# Altium schematic symbol library Cole_.SchLib: 330 symbols (part 10 of 10)
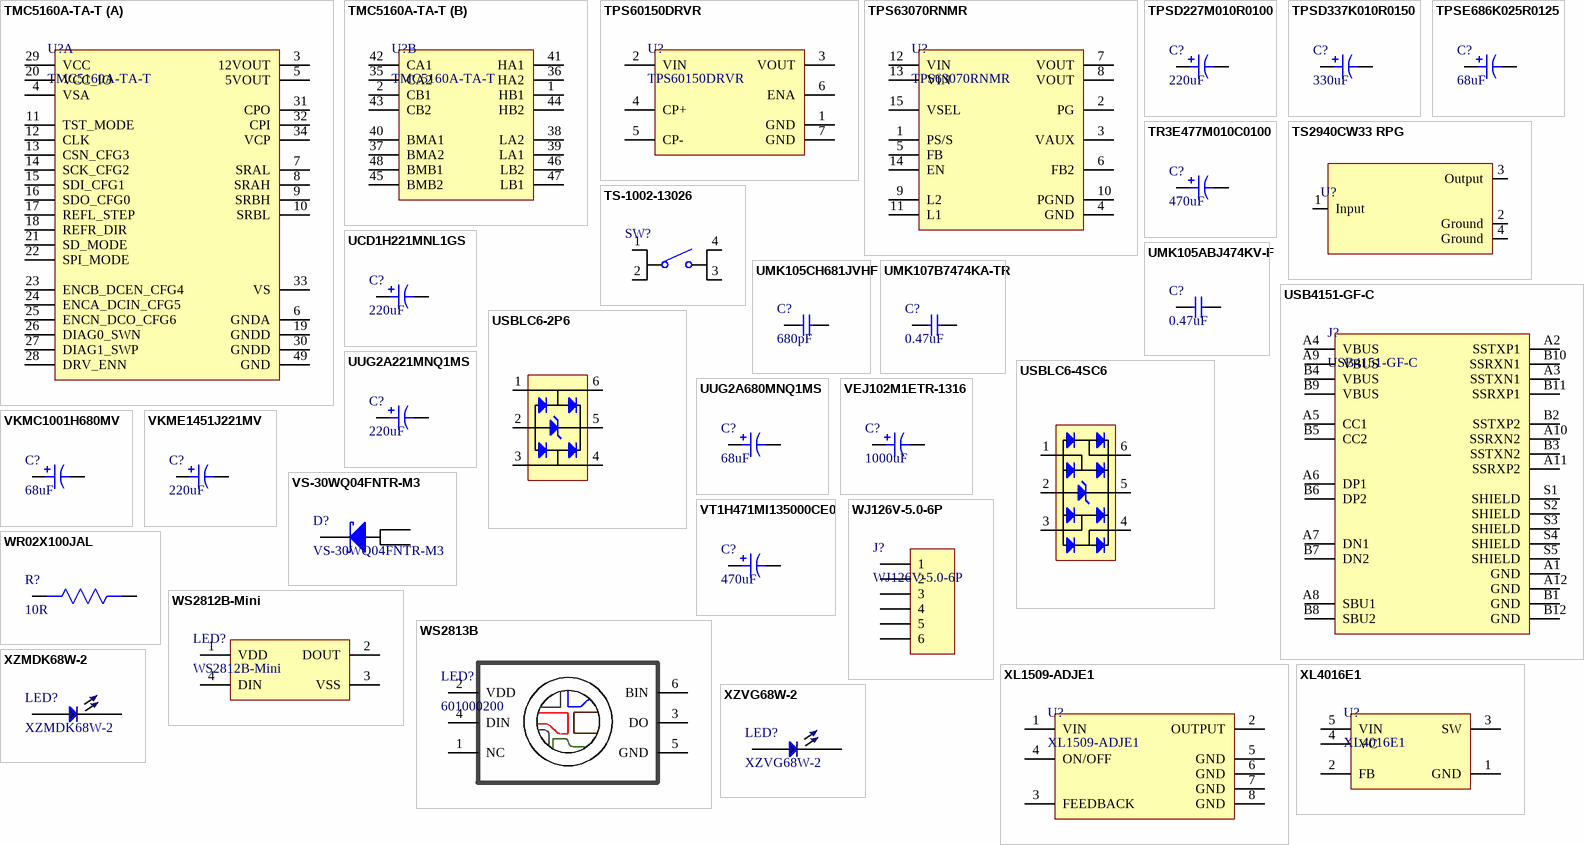
[diagram p17: symbols TMC5160A-TA-T to XZVG68W-2]

## TPS60150DRVR
designator U?
IC REG CHARGE PUMP 5V 140MA 6SON; Manufacturer: Texas Instruments; Number of Outputs: 1; Max Input Voltage: 5.5V; Min Input Voltage: 2.7V; Switching Frequency: 1.5MHz; Synchronous Rectifier: No; Min Output Voltage: 4.8V; Quiescent Current: 4.7mA; Max Output Voltage: 5.2V; Output Type: Fixed; Nominal Supply Current: 90uA; Topology: Boost; Supplier 1: Digi-Key; Manufacturer Part Number: TPS60150DRVR; RoHS: Yes; Category: Voltage Regulators - Switching; Pricing 1: 1=1.69000, 10=1.51400, 25=1.42840, 100=1.21700, 250=1.14268, 500=0.99984, 1000=0.94325 (USD); Case/Package: SON; Number of Pins: 6; Contact Plating: Gold; Min Operating Temperature: -40°C; Max Operating Temperature: 85°C; Packaging: Tape and Reel; Output Voltage: 5V; Output Current: 140mA; Package Quantity: 1; Max Output Current: 140mA; Series: -; Max Supply Voltage: 5.5V; Min Supply Voltage: 2.7V; Nominal Output Voltage: 5V; Supply Current: 90uA; Radiation Hardening: No; REACH SVHC: No SVHC; Lead Free: Lead Free; RoHS Compliant: Yes; ComponentLink1URL: https://datasheet.ciiva.com/15114/getdatasheetpartid-358100-15114131.pdf?src-supplier=Verical; ComponentLink1Description: https://datasheet.ciiva.com/15114/getdatasheetpartid-358100-15114131.pdf?src-supplier=Verical; ComponentLink2URL: https://datasheet.ciiva.com/4874/slvs888b-120916-4874885.pdf?src-supplier=Mouser; ComponentLink2Description: https://datasheet.ciiva.com/4874/slvs888b-120916-4874885.pdf?src-supplier=Mouser; ComponentLink3URL: https://datasheet.ciiva.com/26902/tps60150drvr-26902693.pdf?src-supplier=IIIC; ComponentLink3Description: https://datasheet.ciiva.com/26902/tps60150drvr-26902693.pdf?src-supplier=IIIC; ComponentLink4URL: https://datasheet.ciiva.com/41462/001014874-da-01-en-ic-reg-switched-tps60150drvr-wson-6-tid-41462718.pdf?src-supplier=Conrad; ComponentLink4Description: https://datasheet.ciiva.com/41462/001014874-da-01-en-ic-reg-switched-tps60150drvr-wson-6-tid-41462718.pdf?src-supplier=Conrad; ComponentLink5URL: https://datasheet.ciiva.com/22669/1828381-22669637.pdf?src-supplier=Element14; ComponentLink5Description: https://datasheet.ciiva.com/22669/1828381-22669637.pdf?src-supplier=Element14; ComponentLink6URL: https://datasheet.ciiva.com/2025/tps60150-2025302.pdf?src-supplier=Digi-Key; ComponentLink6Description: https://datasheet.ciiva.com/2025/tps60150-2025302.pdf?src-supplier=Digi-Key; ComponentLink7URL: https://datasheet.ciiva.com/2025/tps60150-2025303.pdf?src-supplier=Digi-Key; ComponentLink7Description: https://datasheet.ciiva.com/2025/tps60150-2025303.pdf?src-supplier=Digi-Key; ComponentLink8URL: https://datasheet.ciiva.com/2025/tps60150-2025304.pdf?src-supplier=Digi-Key; ComponentLink8Description: https://datasheet.ciiva.com/2025/tps60150-2025304.pdf?src-supplier=Digi-Key; ComponentLink9URL: https://datasheet.ciiva.com/46382/1828381-46382472.pdf?src-supplier=Element14; ComponentLink9Description: https://datasheet.ciiva.com/46382/1828381-46382472.pdf?src-supplier=Element14; ComponentLink10URL: https://datasheet.ciiva.com/3215/tps60150-3215851.pdf?src-supplier=Avnet; ComponentLink10Description: https://datasheet.ciiva.com/3215/tps60150-3215851.pdf?src-supplier=Avnet; ComponentLink11URL: https://datasheet.ciiva.com/14320/tps60150-14320303.pdf?src-supplier=Avnet; ComponentLink11Description: https://datasheet.ciiva.com/14320/tps60150-14320303.pdf?src-supplier=Avnet; Supplier Part Number 1: 296-24054-6-ND
footprint TPS60150DRVR
pins: 1 GND, 2 VIN, 3 VOUT, 4 CP+, 5 CP-, 6 ENA, 7 GND

## TPS63070RNMR
designator U?
2-V to 16-V Buck-Boost Converter With 3.6-A Switch Current | IC REG BCK BST ADJ 3.6A 15VQFN; Manufacturer: Texas Instruments; Number of Outputs: 1; Min Input Voltage: 2V; Max Input Voltage: 16V; Min Output Voltage: 2.5V; Max Output Voltage: 9V; Output Current: 2A; Switching Frequency: 2.4MHz; Synchronous Rectifier: Yes; Quiescent Current: 50uA; Output Type: Adjustable; Output Configuration: Positive; ComponentLink2URL: http://www.ti.com/general/docs/suppproductinfo.tsp?distId=10&amp;gotoUrl=http%3A%2F%2Fwww.ti.com%2Flit%2Fgpn%2Ftps63070&src-supplier=Digi-Key; ComponentLink2Description: http://www.ti.com/general/docs/suppproductinfo.tsp?distId=10&amp;gotoUrl=http%3A%2F%2Fwww.ti.com%2Flit%2Fgpn%2Ftps63070&src-supplier=Digi-Key; ComponentLink3URL: http://www.ti.com/lit/ds/symlink/tps63070.pdf?src-supplier=Farnell; ComponentLink3Description: http://www.ti.com/lit/ds/symlink/tps63070.pdf?src-supplier=Farnell; Supplier 1: Digi-Key; Manufacturer Part Number: TPS63070RNMR; RoHS: Yes; Category: Power Supply Modules; Pricing 1: 1=2.83000, 10=2.54000, 25=2.40160, 100=2.08150, 250=1.97472, 500=1.77192, 1000=1.76225 (USD); Mount: Surface Mount; Case/Package: VQFN; Number of Pins: 15; Min Operating Temperature: -40°C; Max Operating Temperature: 125°C; Packaging: Tape and Reel; Topology: Buck-Boost; Lead Free: Lead Free; RoHS Compliant: Yes; ComponentLink1URL: http://www.ti.com/lit/ds/symlink/tps63070.pdf?src-supplier=Digi-Key; ComponentLink1Description: http://www.ti.com/lit/ds/symlink/tps63070.pdf?src-supplier=Digi-Key; Supplier Part Number 1: 296-44874-6-ND
footprint TPS630701RNMT
pins: 1 PS/S, 2 PG, 3 VAUX, 4 GND, 5 FB, 6 FB2, 7 VOUT, 8 VOUT, 9 L2, 10 PGND, 11 L1, 12 VIN, 13 VIN, 14 EN, 15 VSEL

## TPSD227M010R0100
designator C?, comment 220uF
CAP TANT 220UF 20% 10V 2917; Manufacturer: Kyocera AVX; Manufacturer Part Number: TPSD227M010R0100; Dielectric Material: Tantalum; ESR (Equivalent Series Resistance): 100mR; Ripple Current: 490uA; Leakage Current: 22uA; Polarity: Polar; Dissipation Factor: 8%; Supplier 1: Digi-Key; RoHS: Yes; Category: Tantalum Capacitors; Stock 1: 16999; Pricing 1: 1=1.03000, 10=0.81000, 50=0.70200, 100=0.60750 (USD); Mount: Surface Mount; Case/Package: 7343-31; Number of Pins: 2; Case Code (Metric): 7343; Case Code (Imperial): 2917; Min Operating Temperature: -55°C; Max Operating Temperature: 125°C; Capacitance: 220uF; Tolerance: 20%; Voltage Rating (DC): 10V; Package Quantity: 1; Voltage Rating: 10V; Packaging: Tape and Reel; Termination: SMD/SMT; Features: General Purpose; Series: TPS; Construction: Flat; Length: 7.3mm; Width: 0.169inch; Height: 2.9mm; Depth: 4.3mm; Height - Seated (Max): 0.122inch; Size: 2.9mm; Radiation Hardening: No; Lead Free: Lead Free; REACH SVHC: No SVHC; RoHS Compliant: Yes; ComponentLink1URL: https://datasheet.ciiva.com/27051/1154301-27051500.pdf?src-supplier=Jameco; ComponentLink1Description: https://datasheet.ciiva.com/27051/1154301-27051500.pdf?src-supplier=Jameco; ComponentLink2URL: https://datasheet.ciiva.com/26787/tpsd227m010r0100-26787075.pdf?src-supplier=IIIC; ComponentLink2Description: https://datasheet.ciiva.com/26787/tpsd227m010r0100-26787075.pdf?src-supplier=IIIC; ComponentLink3URL: https://datasheet.ciiva.com/265/tps-265200.pdf?src-supplier=Digi-Key; ComponentLink3Description: https://datasheet.ciiva.com/265/tps-265200.pdf?src-supplier=Digi-Key; ComponentLink4URL: https://datasheet.ciiva.com/265/tps-265201.pdf?src-supplier=Digi-Key; ComponentLink4Description: https://datasheet.ciiva.com/265/tps-265201.pdf?src-supplier=Digi-Key; ComponentLink5URL: https://datasheet.ciiva.com/265/tps-265199.pdf?src-supplier=Digi-Key; ComponentLink5Description: https://datasheet.ciiva.com/265/tps-265199.pdf?src-supplier=Digi-Key; ComponentLink6URL: https://datasheet.ciiva.com/5935/1441576-5935727.pdf?src-supplier=Farnell; ComponentLink6Description: https://datasheet.ciiva.com/5935/1441576-5935727.pdf?src-supplier=Farnell; Supplier Part Number 1: 478-4110-1-ND
footprint CAP- 2917
pins: 1, 2

## TPSD337K010R0150
designator C?, comment 330uF
CAP TANT 330UF 10% 10V 2917; Manufacturer: Kyocera AVX; Manufacturer Part Number: TPSD337K010R0150; Dielectric Material: Tantalum; ESR (Equivalent Series Resistance): 150mR; Ripple Current: 400uA; Leakage Current: 33uA; Polarity: Polar; Dissipation Factor: 8%; Supplier 1: Digi-Key; RoHS: Yes; Category: Tantalum Capacitors; Stock 1: 224; Pricing 1: 1=1.46000, 10=1.14900, 50=0.99580, 100=0.86180 (USD); Mount: Surface Mount; Case/Package: 2917; Number of Pins: 2; Case Code (Metric): 7343; Case Code (Imperial): 2917; Weight: 0.023634oz; Min Operating Temperature: -55°C; Max Operating Temperature: 125°C; Capacitance: 330uF; Tolerance: 10%; Voltage Rating: 10V; Packaging: Tape and Reel; Package Quantity: 1; Termination: SMD/SMT; Voltage: 10V; Voltage Rating (DC): 10V; Features: General Purpose; Series: TPS; Construction: Flat; Length: 7.3mm; Width: 0.169inch; Height: 2.9mm; Depth: 4.3mm; Height - Seated (Max): 0.122inch; Radiation Hardening: No; REACH SVHC: No SVHC; Lead Free: Lead Free; RoHS Compliant: Yes; ComponentLink1URL: https://datasheet.ciiva.com/11793/0900766b80df8ba2-11793379.pdf?src-supplier=RSComponents; ComponentLink1Description: https://datasheet.ciiva.com/11793/0900766b80df8ba2-11793379.pdf?src-supplier=RSComponents; ComponentLink2URL: https://datasheet.ciiva.com/26944/getdatasheetpartid-62742-26944785.pdf?src-supplier=Verical; ComponentLink2Description: https://datasheet.ciiva.com/26944/getdatasheetpartid-62742-26944785.pdf?src-supplier=Verical; ComponentLink3URL: https://datasheet.ciiva.com/29503/tps-29503493.pdf?src-supplier=Digi-Key; ComponentLink3Description: https://datasheet.ciiva.com/29503/tps-29503493.pdf?src-supplier=Digi-Key; ComponentLink4URL: https://datasheet.ciiva.com/29503/tps-29503494.pdf?src-supplier=Digi-Key; ComponentLink4Description: https://datasheet.ciiva.com/29503/tps-29503494.pdf?src-supplier=Digi-Key; ComponentLink5URL: https://datasheet.ciiva.com/12889/tps-23028-12889098.pdf?src-supplier=Mouser; ComponentLink5Description: https://datasheet.ciiva.com/12889/tps-23028-12889098.pdf?src-supplier=Mouser; ComponentLink6URL: https://datasheet.ciiva.com/17340/tps-17340170.pdf?src-supplier=Avnet+Europe; ComponentLink6Description: https://datasheet.ciiva.com/17340/tps-17340170.pdf?src-supplier=Avnet+Europe; Supplier Part Number 1: 478-9191-1-ND
footprint CAP- 2917
pins: 1, 2

## TPSE686K025R0125
designator C?, comment 68uF
CAP TANT 68UF 25V 10% 2917; Manufacturer: Kyocera AVX; Manufacturer Part Number: TPSE686K025R0125; Dielectric Material: Tantalum; ESR (Equivalent Series Resistance): 125mR; Leakage Current: 17uA; Polarity: Polar; Dissipation Factor: 6%; Ripple Current: 460uA; Supplier 1: Arrow Electronics; RoHS: Yes; Category: Tantalum Capacitors; Stock 1: 3; Pricing 1: 1=1.54710 (USD); Mount: Surface Mount,PCB; Case/Package: 2917; Number of Pins: 2; Case Code (Metric): 7343; Case Code (Imperial): 2917; Min Operating Temperature: -55°C; Max Operating Temperature: 125°C; Capacitance: 68uF; Tolerance: 10%; Voltage Rating (DC): 25V; Packaging: Tape and Reel; Voltage Rating: 25V; Package Quantity: 1; Termination: SMD/SMT; Voltage: 25V; Features: General Purpose; Series: TPS; Length: 7.3mm; Width: 4.3mm; Height: 4.1mm; Depth: 4.3mm; Height - Seated (Max): 0.169inch; Radiation Hardening: No; Lead Free: Lead Free; RoHS Compliant: Yes; REACH SVHC: No SVHC; ComponentLink1URL: https://datasheet.ciiva.com/11794/0900766b8070be5f-11794580.pdf?src-supplier=RSComponents; ComponentLink1Description: https://datasheet.ciiva.com/11794/0900766b8070be5f-11794580.pdf?src-supplier=RSComponents; ComponentLink2URL: https://datasheet.ciiva.com/36526/2043514-36526269.pdf?src-supplier=Jameco; ComponentLink2Description: https://datasheet.ciiva.com/36526/2043514-36526269.pdf?src-supplier=Jameco; ComponentLink3URL: https://datasheet.ciiva.com/15163/getdatasheetpartid-62715-15163061.pdf?src-supplier=Verical; ComponentLink3Description: https://datasheet.ciiva.com/15163/getdatasheetpartid-62715-15163061.pdf?src-supplier=Verical; ComponentLink4URL: https://datasheet.ciiva.com/28577/tps-28577897.pdf?src-supplier=Element14; ComponentLink4Description: https://datasheet.ciiva.com/28577/tps-28577897.pdf?src-supplier=Element14; ComponentLink5URL: https://datasheet.ciiva.com/11216/tps-11216684.pdf?src-supplier=Avnet; ComponentLink5Description: https://datasheet.ciiva.com/11216/tps-11216684.pdf?src-supplier=Avnet; ComponentLink6URL: https://datasheet.ciiva.com/265/tps-265741.pdf?src-supplier=Digi-Key; ComponentLink6Description: https://datasheet.ciiva.com/265/tps-265741.pdf?src-supplier=Digi-Key; ComponentLink7URL: https://datasheet.ciiva.com/11231/tps-11231517.pdf?src-supplier=Avnet; ComponentLink7Description: https://datasheet.ciiva.com/11231/tps-11231517.pdf?src-supplier=Avnet; ComponentLink8URL: https://datasheet.ciiva.com/7864/1680477-7864703.pdf?src-supplier=Element14; ComponentLink8Description: https://datasheet.ciiva.com/7864/1680477-7864703.pdf?src-supplier=Element14; ComponentLink9URL: https://datasheet.ciiva.com/14593/70001047-14593606.pdf?src-supplier=Allied+Electronics; ComponentLink9Description: https://datasheet.ciiva.com/14593/70001047-14593606.pdf?src-supplier=Allied+Electronics; ComponentLink10URL: https://datasheet.ciiva.com/14606/70001047-14606455.pdf?src-supplier=Allied+Electronics; ComponentLink10Description: https://datasheet.ciiva.com/14606/70001047-14606455.pdf?src-supplier=Allied+Electronics; ComponentLink11URL: https://datasheet.ciiva.com/265/tps-265739.pdf?src-supplier=Digi-Key; ComponentLink11Description: https://datasheet.ciiva.com/265/tps-265739.pdf?src-supplier=Digi-Key; ComponentLink12URL: https://datasheet.ciiva.com/265/tps-265740.pdf?src-supplier=Digi-Key; ComponentLink12Description: https://datasheet.ciiva.com/265/tps-265740.pdf?src-supplier=Digi-Key; ComponentLink13URL: https://datasheet.ciiva.com/16389/tps-16389180.pdf?src-supplier=Future+Electronics; ComponentLink13Description: https://datasheet.ciiva.com/16389/tps-16389180.pdf?src-supplier=Future+Electronics; ComponentLink14URL: https://datasheet.ciiva.com/7864/1680477-7864701.pdf?src-supplier=Element14; ComponentLink14Description: https://datasheet.ciiva.com/7864/1680477-7864701.pdf?src-supplier=Element14; ComponentLink15URL: https://datasheet.ciiva.com/7864/1680477-7864702.pdf?src-supplier=Element14; ComponentLink15Description: https://datasheet.ciiva.com/7864/1680477-7864702.pdf?src-supplier=Element14; ComponentLink16URL: https://datasheet.ciiva.com/12883/tps-23028-12883231.pdf?src-supplier=Mouser; ComponentLink16Description: https://datasheet.ciiva.com/12883/tps-23028-12883231.pdf?src-supplier=Mouser; Supplier Part Number 1: TPSE686K025R0125
footprint CAP- 2917
pins: 1, 2

## TR3E477M010C0100
designator C?, comment 470uF
CAP TANT 470UF 10V 20% 2917; Manufacturer: Vishay Sprague; Manufacturer Part Number: TR3E477M010C0100; Dielectric Material: Tantalum; ESR (Equivalent Series Resistance): 100mR; Ripple Current: 1.28A; Leakage Current: 47uA; Polarity: Polar; Dissipation Factor: 15%; Supplier 1: Digi-Key; RoHS: Yes; Category: Tantalum Capacitors; Stock 1: 1290; Pricing 1: 1=3.63000, 10=2.93500, 50=2.56140, 100=2.24120 (USD); Mount: Surface Mount; Case/Package: 2917; Number of Pins: 2; Case Code (Metric): 7343; Case Code (Imperial): 2917; Min Operating Temperature: -55°C; Max Operating Temperature: 125°C; Capacitance: 470uF; Tolerance: 20%; Voltage Rating: 10V; Packaging: Tape and Reel; Package Quantity: 1; Termination: SMD/SMT; Voltage Rating (DC): 10V; Features: General Purpose; Series: TANTAMOUNT® TR3; Construction: Flat; Length: 7.3mm; Width: 0.169inch; Height: 4mm; Depth: 4.3mm; Height - Seated (Max): 0.17inch; Radiation Hardening: No; REACH SVHC: Unknown; RoHS Compliant: Yes; ComponentLink1URL: https://datasheet.ciiva.com/262/tr3-262090.pdf?src-supplier=Digi-Key; ComponentLink1Description: https://datasheet.ciiva.com/262/tr3-262090.pdf?src-supplier=Digi-Key; ComponentLink2URL: https://datasheet.ciiva.com/262/tr3-262091.pdf?src-supplier=Digi-Key; ComponentLink2Description: https://datasheet.ciiva.com/262/tr3-262091.pdf?src-supplier=Digi-Key; ComponentLink3URL: https://datasheet.ciiva.com/11247/tr3-11247211.pdf?src-supplier=Avnet; ComponentLink3Description: https://datasheet.ciiva.com/11247/tr3-11247211.pdf?src-supplier=Avnet; ComponentLink4URL: https://datasheet.ciiva.com/262/tr3-262092.pdf?src-supplier=Digi-Key; ComponentLink4Description: https://datasheet.ciiva.com/262/tr3-262092.pdf?src-supplier=Digi-Key; ComponentLink5URL: https://datasheet.ciiva.com/12882/tr3-239731-12882796.pdf?src-supplier=Mouser; ComponentLink5Description: https://datasheet.ciiva.com/12882/tr3-239731-12882796.pdf?src-supplier=Mouser; Supplier Part Number 1: 718-1481-1-ND
footprint CAP- 2917
pins: 1, 2

## TS2940CW33 RPG
designator U?
IC REG LINEAR 3.3V 1A SOT223; Manufacturer: Taiwan Semiconductor; Manufacturer Part Number: TS2940CW33 RPG; Output Type: Fixed; Output Configuration: Positive; Number of Regulators: 1; Max Supply Voltage: 26V; Quiescent Current: 15mA; Max Supply Current: 110mA; Supplier: Digi-Key; Supplier Part Number: 1801-TS2940CW33RPGCT-ND; RoHS: Yes; Stock: 4100; Pricing: 1=1.12, 10=1.004, 25=0.9532, 100=0.7829, 250=0.7318, 500=0.6467, 1000=0.51056 (USD); Mounting Technology: Surface Mount; Case/Package: TO-261-4; Min Operating Temperature: -40°C; Max Operating Temperature: 125°C; Min Output Voltage: 3.3V; Output Current: 1A; Series: -; Packaging: Tape and Reel; RoHS Compliant: Yes; ComponentLink1URL: http://www.farnell.com/datasheets/2044143.pdf?src-supplier=Farnell; ComponentLink1Description: http://www.farnell.com/datasheets/2044143.pdf?src-supplier=Farnell; ComponentLink2URL: https://www.taiwansemi.com/products/datasheet/TS2940_D15.pdf?src-supplier=Digi-Key; ComponentLink2Description: https://www.taiwansemi.com/products/datasheet/TS2940_D15.pdf?src-supplier=Digi-Key; ComponentLink3URL: https://datasheet.octopart.com/TS2940CW33-RPG-Taiwan-Semiconductor-datasheet-62313027.pdf?src-supplier=TME; ComponentLink3Description: https://datasheet.octopart.com/TS2940CW33-RPG-Taiwan-Semiconductor-datasheet-62313027.pdf?src-supplier=TME; Item Type: IC
footprint SOT-223
pins: 1 Input, 2 Ground, 3 Output, 4 Ground

## TS-1002-13026
designator SW?
50mA Straight SPST 12V Plugin,6x6mm Tactile Switches ROHS; Manufacturer: XUNPU; Manufacturer Part Number: TS-1002-13026; Package: Plugin,6x6mm; LCSC Part Number: C455107; Item Type: Tactile Switch; ComponentLink1Description: LCSC; ComponentLink1URL: https://www.lcsc.com/product-detail/span-style-background-color-ff0-Tactile-span-Switches_XUNPU-TS-1002-13026_C455107.html
footprint TS-1002-13026_
pins: 1, 2, 3, 4

## UCD1H221MNL1GS
designator C?, comment 220uF
CAP ALUM 220UF 20% 50V SMD; Manufacturer: Nichicon; Manufacturer Part Number: UCD1H221MNL1GS; Ripple Current: 700mA; Impedance: 160mR; Leakage Current: 3uA; Life (Hours): 5000Hour; Dissipation Factor: 0.1%; Supplier 1: Digi-Key; RoHS: Yes; Category: Aluminum Electrolytic Capacitors; Pricing 1: 1=0.85000, 10=0.60200, 50=0.45480, 100=0.39620 (USD); Mount: Surface Mount,PCB; Case/Package: Radial; Min Operating Temperature: -55°C; Max Operating Temperature: 105°C; Capacitance: 220uF; Tolerance: 20%; Voltage Rating: 50V; Packaging: Tape and Reel; Package Quantity: 1; Voltage Rating (DC): 50V; Termination: SMD/SMT; Voltage: 50V; Features: General Purpose; Series: CD; Construction: Cylindrical; Diameter: 10mm; Length: 10mm; Height: 10mm; Height - Seated (Max): 0.394inch; Radiation Hardening: No; Lead Free: Lead Free; RoHS Compliant: Yes; ComponentLink1URL: https://datasheet.ciiva.com/11776/0900766b80ebdadd-11776792.pdf?src-supplier=RSComponents; ComponentLink1Description: https://datasheet.ciiva.com/11776/0900766b80ebdadd-11776792.pdf?src-supplier=RSComponents; ComponentLink2URL: https://datasheet.ciiva.com/5362/e-cd-22158-5362489.pdf?src-supplier=Mouser; ComponentLink2Description: https://datasheet.ciiva.com/5362/e-cd-22158-5362489.pdf?src-supplier=Mouser; ComponentLink3URL: https://datasheet.ciiva.com/11684/e-cd-11684678.pdf?src-supplier=Avnet; ComponentLink3Description: https://datasheet.ciiva.com/11684/e-cd-11684678.pdf?src-supplier=Avnet; ComponentLink4URL: https://datasheet.ciiva.com/15037/e-cd-15037119.pdf?src-supplier=Digi-Key; ComponentLink4Description: https://datasheet.ciiva.com/15037/e-cd-15037119.pdf?src-supplier=Digi-Key; ComponentLink5URL: https://datasheet.ciiva.com/16393/e-cd-16393493.pdf?src-supplier=Future+Electronics; ComponentLink5Description: https://datasheet.ciiva.com/16393/e-cd-16393493.pdf?src-supplier=Future+Electronics; ComponentLink6URL: https://datasheet.ciiva.com/17354/e-cd-17354606.pdf?src-supplier=Avnet+Europe; ComponentLink6Description: https://datasheet.ciiva.com/17354/e-cd-17354606.pdf?src-supplier=Avnet+Europe; Supplier Part Number 1: 493-6390-1-ND
footprint UCD1H221MNL1GS (CAP ALUM 220UF 20% 50V SMD)
pins: 1, 2

## UMK105ABJ474KV-F
designator C?, comment 0.47uF
CAP CER 0.47UF 50V X5R 0402; Manufacturer: Taiyo Yuden; Manufacturer Part Number: UMK105ABJ474KV-F; Capacitance: 470nF; Tolerance: 10%; Supplier 1: Digi-Key; RoHS: Yes; Category: Ceramic Capacitors; Stock 1: 145003; Pricing 1: 1=0.24000, 10=0.16100, 50=0.09680, 100=0.08170, 500=0.05592, 1000=0.04946, 2500=0.04731, 5000=0.04301 (USD); Mount: Surface Mount; Case/Package: 0402; Case Code (Metric): 1005; Case Code (Imperial): 0402; Min Operating Temperature: -55°C; Max Operating Temperature: 85°C; Package Quantity: 10000; Packaging: Tape and Reel; Voltage Rating: 50V; Voltage Rating (DC): 50V; Dielectric: X5R; Termination: SMD/SMT; Length: 0.039inch; Width: 0.02inch; Height: 0.5mm; Thickness: 0.022inch; Lead Free: Lead Free; RoHS Compliant: Yes; ComponentLink1URL: https://datasheet.ciiva.com/30249/584umk105abj474kv-f-30249824.pdf?src-supplier=Onlinecomponents.com; ComponentLink1Description: https://datasheet.ciiva.com/30249/584umk105abj474kv-f-30249824.pdf?src-supplier=Onlinecomponents.com; ComponentLink2URL: https://datasheet.ciiva.com/24370/10umk105abj474kv-f-24370678.pdf?src-supplier=Onlinecomponents.com; ComponentLink2Description: https://datasheet.ciiva.com/24370/10umk105abj474kv-f-24370678.pdf?src-supplier=Onlinecomponents.com; ComponentLink3URL: https://datasheet.ciiva.com/18697/mlcc-all-e-18697429.pdf?src-supplier=Digi-Key; ComponentLink3Description: https://datasheet.ciiva.com/18697/mlcc-all-e-18697429.pdf?src-supplier=Digi-Key; ComponentLink4URL: https://datasheet.ciiva.com/18697/mlcc-all-e-18697430.pdf?src-supplier=Digi-Key; ComponentLink4Description: https://datasheet.ciiva.com/18697/mlcc-all-e-18697430.pdf?src-supplier=Digi-Key; ComponentLink5URL: https://datasheet.ciiva.com/18697/mlcc-all-e-18697431.pdf?src-supplier=Digi-Key; ComponentLink5Description: https://datasheet.ciiva.com/18697/mlcc-all-e-18697431.pdf?src-supplier=Digi-Key; Supplier Part Number 1: 587-3497-1-ND
footprint Cap 0402
pins: 1, 2

## UMK105CH681JVHF
designator C?, comment 680pF
CAP CER 680PF 50V CH 0402; Manufacturer: Taiyo Yuden; Manufacturer Part Number: UMK105CH681JVHF; Supplier 1: Digi-Key; RoHS: Yes; Category: Ceramic Capacitors; Stock 1: 20137; Pricing 1: 1=0.11000, 10=0.08100, 50=0.04420, 100=0.03610, 500=0.02580, 1000=0.02027, 2500=0.01842, 5000=0.01695 (USD); RoHS Compliant: Yes; Supplier Part Number 1: 587-5097-1-ND
footprint Cap 0402
pins: 1, 2

## UMK107B7474KA-TR
designator C?, comment 0.47uF
CAP CER 0.47uF 50V X7R 0603; Manufacturer: Taiyo Yuden; Manufacturer Part Number: UMK107B7474KA-TR; Tolerance: 10%; Capacitance: 470nF; Supplier 1: Digi-Key; RoHS: Yes; Category: Ceramic Capacitors; Stock 1: 81; Pricing 1: 1=0.21000, 10=0.14800, 50=0.08400, 100=0.06950, 500=0.04876, 1000=0.04036 (USD); Mount: Surface Mount; Case/Package: 0603; Case Code (Metric): 1608; Case Code (Imperial): 0603; Min Operating Temperature: -55°C; Max Operating Temperature: 125°C; Packaging: Tape and Reel; Voltage Rating: 50V; Package Quantity: 1; Dielectric: X7R; Termination: SMD/SMT; Voltage: 50V; Series: M; Voltage Rating (DC): 50V; Construction: Flat; Length: 1.6mm; Width: 0.031inch; Height: 0.8mm; Depth: 0.8mm; Thickness: 0.035inch; Radiation Hardening: No; RoHS Compliant: Yes; Lead Free: Lead Free; Halogen Free: Halogen Free; ComponentLink1URL: https://datasheet.ciiva.com/30063/972umk107b7474ka-tr-30063804.pdf?src-supplier=Onlinecomponents.com; ComponentLink1Description: https://datasheet.ciiva.com/30063/972umk107b7474ka-tr-30063804.pdf?src-supplier=Onlinecomponents.com; ComponentLink2URL: https://datasheet.ciiva.com/11600/umk107b7474ka-tr-ss-11600367.pdf?src-supplier=Avnet; ComponentLink2Description: https://datasheet.ciiva.com/11600/umk107b7474ka-tr-ss-11600367.pdf?src-supplier=Avnet; ComponentLink3URL: https://datasheet.ciiva.com/15922/257umk107b7474ka-tr-15922607.pdf?src-supplier=Onlinecomponents.com; ComponentLink3Description: https://datasheet.ciiva.com/15922/257umk107b7474ka-tr-15922607.pdf?src-supplier=Onlinecomponents.com; ComponentLink4URL: https://datasheet.ciiva.com/6274/mlcc-all-e-6274710.pdf?src-supplier=Digi-Key; ComponentLink4Description: https://datasheet.ciiva.com/6274/mlcc-all-e-6274710.pdf?src-supplier=Digi-Key; ComponentLink5URL: https://datasheet.ciiva.com/5412/mlcc01-e-5412119.pdf?src-supplier=Mouser; ComponentLink5Description: https://datasheet.ciiva.com/5412/mlcc01-e-5412119.pdf?src-supplier=Mouser; ComponentLink6URL: https://datasheet.ciiva.com/6274/mlcc-all-e-6274712.pdf?src-supplier=Digi-Key; ComponentLink6Description: https://datasheet.ciiva.com/6274/mlcc-all-e-6274712.pdf?src-supplier=Digi-Key; ComponentLink7URL: https://datasheet.ciiva.com/6274/mlcc-all-e-6274713.pdf?src-supplier=Digi-Key; ComponentLink7Description: https://datasheet.ciiva.com/6274/mlcc-all-e-6274713.pdf?src-supplier=Digi-Key; Supplier Part Number 1: 587-3170-1-ND
footprint Cap 0603
pins: 1, 2

## USB4151-GF-C
designator J?
USB TYPE C, PLUG, SMT , G/F, VER; Manufacturer: Global Connector Technology; Supplier 1: Future Electronics; Manufacturer Part Number: USB4151-GF-C; RoHS: Yes; Pricing 1: 270=1.32000, 540=1.09000, 810=1.08000, 1080=1.07000, 1350=1.06000 (USD); Supplier Part Number 1: 8127468
footprint USB4151-GF-C
pins: A1 GND, A2 SSTXP1, A3 SSTXN1, A4 VBUS, A5 CC1, A6 DP1, A7 DN1, A8 SBU1, A9 VBUS, A10 SSRXN2, A11 SSRXP2, A12 GND, B1 GND, B2 SSTXP2, B3 SSTXN2, B4 VBUS, B5 CC2, B6 DP2, B7 DN2, B8 SBU2, B9 VBUS, B10 SSRXN1, B11 SSRXP1, B12 GND, S1 SHIELD, S2 SHIELD, S3 SHIELD, S4 SHIELD, S5 SHIELD

## USBLC6-2P6
designator D?
TVS DIODE 5.25VWM 17VC SOT666; Item Type: ESD Diode; Direction: Unidirectional,Bidirectional; Operating Supply Voltage: 5V; Number of Elements: 1; Value: 3.5pF; Reverse Breakdown Voltage: 6V; Number of Channels: 2; Clamping Voltage: 17V; Power Line Protection: Yes; Test Current: 1mA; Max Reverse Leakage Current: 150nA; Peak Pulse Current: 5A; Max Repetitive Reverse Voltage (Vrrm): 5.25V; LCSC Part Number: C15999; ComponentLink1Description: LCSC; Supplier: Mouser; Supplier Part Number: 511-USBLC6-2P6; RoHS: Yes; Category: TVS Diodes; Stock: 180020; Pricing: 1=0.59, 10=0.514, 50=0.514, 100=0.356, 1000=0.253, 10000=0.197 (USD); Mounting Technology: Surface Mount; Case/Package: SOT-666; Pins: 6; Min Operating Temperature: -40°C; Max Operating Temperature: 125°C; Package Quantity: 1; Packaging: Tape and Reel; Number of Bidirectional Channels: 2; Reverse Standoff Voltage: 5V; Min Breakdown Voltage: 6V; Polarity: Unidirectional,Bidirectional; Breakdown Voltage: 6V; Termination: SMD/SMT; Working Voltage: 5V; ESD Protection: Yes; Leakage Current: 150nA; Max Breakdown Voltage: 6V; Series: USB; Clamping Voltage-Max: 17V; Number of Unidirectional Channels: 2; Length: 1.7mm; Width: 1.3mm; Height: 0.6mm; Depth: 1.3mm; Radiation Hardening: No; Reach SVHC Compliant: No; Lead Free: Lead Free; RoHS Compliant: Yes; ComponentLink2URL: https://datasheet.ciiva.com/14186/usblc6-2-st-eng-tds-14186568.pdf?src-supplier=Distrelec; ComponentLink2Description: https://datasheet.ciiva.com/14186/usblc6-2-st-eng-tds-14186568.pdf?src-supplier=Distrelec; ComponentLink3URL: https://datasheet.ciiva.com/15143/getdatasheetpartid-98673-15143462.pdf?src-supplier=Verical; ComponentLink3Description: https://datasheet.ciiva.com/15143/getdatasheetpartid-98673-15143462.pdf?src-supplier=Verical; ComponentLink4URL: https://datasheet.ciiva.com/22685/1690354-22685832.pdf?src-supplier=Element14; ComponentLink4Description: https://datasheet.ciiva.com/22685/1690354-22685832.pdf?src-supplier=Element14; ComponentLink5URL: https://datasheet.ciiva.com/22692/1690354-22692453.pdf?src-supplier=Element14; ComponentLink5Description: https://datasheet.ciiva.com/22692/1690354-22692453.pdf?src-supplier=Element14; ComponentLink6URL: https://datasheet.ciiva.com/4508/cd00050750-4508892.pdf?src-supplier=Mouser; ComponentLink6Description: https://datasheet.ciiva.com/4508/cd00050750-4508892.pdf?src-supplier=Mouser; ComponentLink7URL: https://datasheet.ciiva.com/16378/cd00050750-16378714.pdf?src-supplier=Future+Electronics; ComponentLink7Description: https://datasheet.ciiva.com/16378/cd00050750-16378714.pdf?src-supplier=Future+Electronics; ComponentLink8URL: https://datasheet.ciiva.com/41444/001184108-da-01-en-ic-esd-protection-usblc6-2p6-sot-666-stm-41444134.pdf?src-supplier=Conrad; ComponentLink8Description: https://datasheet.ciiva.com/41444/001184108-da-01-en-ic-esd-protection-usblc6-2p6-sot-666-stm-41444134.pdf?src-supplier=Conrad
footprint SOT-666
pins: 1 I/O1, 2 GND, 3 I/O2, 4 I/O2, 5 VBUS, 6 I/O1

## USBLC6-4SC6
designator D?
TVS DIODE 5.25VWM 17VC SOT23-6; Item Type: ESD Diode; Value: 4pF; Direction: Unidirectional; Reverse Standoff Voltage: 5V; Min Breakdown Voltage: 6V; Power Line Protection: Yes; Peak Pulse Current: 5A; Number of Elements: 1; Operating Supply Voltage: 860mV; Number of Channels: 4; Clamping Voltage: 17V; Polarity: Unidirectional,Bidirectional; Leakage Current: 150nA; Test Current: 1mA; Max Breakdown Voltage: 10V; Max Reverse Leakage Current: 2uA; LCSC Part Number: C111212; ComponentLink1Description: LCSC; Supplier: Mouser; Supplier Part Number: 511-USBLC6-4SC6; RoHS: Yes; Category: TVS Diodes; Stock: 148069; Pricing: 1=0.58, 10=0.512, 50=0.512, 100=0.381, 1000=0.271, 10000=0.211 (USD); Mounting Technology: Surface Mount; Case/Package: SOT-23; Pins: 6; Min Operating Temperature: -40°C; Max Operating Temperature: 125°C; Packaging: Tape and Reel; Series: USB; Reverse Breakdown Voltage: 6V; Breakdown Voltage: 6V; Termination: SMD/SMT; Working Voltage: 5V; ESD Protection: Yes; Voltage Rating (DC): 5V; Clamping Voltage-Max: 17V; Number of Unidirectional Channels: 4; Length: 3.05mm; Width: 1.75mm; Height: 1.3mm; Depth: 1.75mm; Radiation Hardening: No; Lead Free: Lead Free; RoHS Compliant: Yes; Reach SVHC Compliant: No; ComponentLink2URL: https://datasheet.ciiva.com/14186/usblc6-4-st-eng-tds-14186570.pdf?src-supplier=Distrelec; ComponentLink2Description: https://datasheet.ciiva.com/14186/usblc6-4-st-eng-tds-14186570.pdf?src-supplier=Distrelec; ComponentLink3URL: https://datasheet.ciiva.com/27052/1493951-27052291.pdf?src-supplier=Jameco; ComponentLink3Description: https://datasheet.ciiva.com/27052/1493951-27052291.pdf?src-supplier=Jameco; ComponentLink4URL: https://datasheet.ciiva.com/1220/48344-1220005.pdf?src-supplier=Newark; ComponentLink4Description: https://datasheet.ciiva.com/1220/48344-1220005.pdf?src-supplier=Newark; ComponentLink5URL: https://datasheet.ciiva.com/4507/cd00047494-112581-4507757.pdf?src-supplier=Mouser; ComponentLink5Description: https://datasheet.ciiva.com/4507/cd00047494-112581-4507757.pdf?src-supplier=Mouser; ComponentLink6URL: https://datasheet.ciiva.com/16206/cd00047494-16206119.pdf?src-supplier=Future+Electronics; ComponentLink6Description: https://datasheet.ciiva.com/16206/cd00047494-16206119.pdf?src-supplier=Future+Electronics; ComponentLink7URL: https://datasheet.ciiva.com/15143/getdatasheetpartid-88767-15143364.pdf?src-supplier=Verical; ComponentLink7Description: https://datasheet.ciiva.com/15143/getdatasheetpartid-88767-15143364.pdf?src-supplier=Verical; ComponentLink8URL: https://datasheet.ciiva.com/22685/1498406-22685833.pdf?src-supplier=Element14; ComponentLink8Description: https://datasheet.ciiva.com/22685/1498406-22685833.pdf?src-supplier=Element14; ComponentLink9URL: https://datasheet.ciiva.com/22692/1498406-22692454.pdf?src-supplier=Element14; ComponentLink9Description: https://datasheet.ciiva.com/22692/1498406-22692454.pdf?src-supplier=Element14
footprint SOT-23-6
pins: 1 I/O1, 2 GND, 3 I/O2, 4 I/O3, 5 VBUS, 6 I/O4

## UUG2A221MNQ1MS
designator C?, comment 220uF
CAP ALUM 220UF 20% 100V SMD; Manufacturer: Nichicon; Manufacturer Part Number: UUG2A221MNQ1MS; Ripple Current: 665mA; Polarity: Polar; Leakage Current: 100uA; Life (Hours): 2000Hour; Supplier 1: Digi-Key; RoHS: Yes; Category: Aluminum Electrolytic Capacitors; Stock 1: 370; Pricing 1: 1=2.31000, 10=1.87100, 50=1.63280 (USD); Mount: Surface Mount; Case/Package: Radial; Min Operating Temperature: -40°C; Max Operating Temperature: 85°C; Capacitance: 220uF; Package Quantity: 250; Packaging: Tape and Reel; Voltage Rating: 100V; Voltage Rating (DC): 100V; Tolerance: 20%; Termination: SMD/SMT; Series: UUG; Length: 16.5mm; Height - Seated (Max): 0.688inch; RoHS Compliant: Yes; ComponentLink1URL: https://datasheet.ciiva.com/5364/e-ug-16273-5364487.pdf?src-supplier=Mouser; ComponentLink1Description: https://datasheet.ciiva.com/5364/e-ug-16273-5364487.pdf?src-supplier=Mouser; Supplier Part Number 1: 493-17479-1-ND
footprint UUG2A221MNQ1MS (CAP ALUM 220UF 20% 100V SMD)
pins: 1, 2

## UUG2A680MNQ1MS
designator C?, comment 68uF
CAP ALUM 68UF 20% 100V SMD; Manufacturer: Nichicon; Manufacturer Part Number: UUG2A680MNQ1MS; Ripple Current: 350mA; Polarity: Polar; Leakage Current: 100uA; Life (Hours): 2000Hour; Dissipation Factor: 0.08%; Supplier 1: Digi-Key; RoHS: Yes; Category: Aluminum Electrolytic Capacitors; Stock 1: 285; Pricing 1: 1=1.47000, 10=1.16300, 50=1.00820, 100=0.87250 (USD); Mount: Surface Mount; Case/Package: Radial; Min Operating Temperature: -40°C; Max Operating Temperature: 85°C; Package Quantity: 400; Voltage Rating: 100V; Voltage Rating (DC): 100V; Tolerance: 20%; Packaging: Tape and Reel; Capacitance: 68uF; Termination: SMD/SMT; Series: UUG; Length: 13.5mm; Height: 13.5mm; Height - Seated (Max): 0.571inch; Lead Free: Lead Free; RoHS Compliant: Yes; ComponentLink1URL: https://datasheet.ciiva.com/5365/e-ug-16273-5365015.pdf?src-supplier=Mouser; ComponentLink1Description: https://datasheet.ciiva.com/5365/e-ug-16273-5365015.pdf?src-supplier=Mouser; ComponentLink2URL: https://datasheet.ciiva.com/16513/e-db-gb-16513047.pdf?src-supplier=Future+Electronics; ComponentLink2Description: https://datasheet.ciiva.com/16513/e-db-gb-16513047.pdf?src-supplier=Future+Electronics; Supplier Part Number 1: 493-17480-1-ND
footprint UUG2A680MNQ1MS (CAP ALUM 68UF 20% 100V SMD)
pins: 1, 2

## VEJ102M1ETR-1316
designator C?, comment 1000uF
2000hrs@105℃ -45℃~+105℃ 1000uF 16mm 25V 12.5mm ±20% SMD,12.5x16mm Aluminum Electrolytic Capacitors - SMD ROHS; Manufacturer: Lelon; Manufacturer Part Number: VEJ-102M1ETR-1316; Dissipation Factor: 0.26%; Capacitance: 1mF; Ripple Current: 550mA; Leakage Current: 4uA; Supplier 1: Mouser; RoHS: Yes; Category: Uncategorized; Case/Package: Aluminum; Min Operating Temperature: -55°C; Max Operating Temperature: 105°C; Package Quantity: 200; Voltage Rating: 25V; Voltage Rating (DC): 25V; Tolerance: 20%; Packaging: Tape and Reel; Termination: SMD/SMT; Length: 16mm; Height: 13mm; ComponentLink1URL: http://www.lelon.com.tw/down.php?f=/file/15.pdf&n=VEJ.pdf&src-supplier=Mouser; ComponentLink1Description: http://www.lelon.com.tw/down.php?f=/file/15.pdf&n=VEJ.pdf&src-supplier=Mouser; Supplier Part Number 1: 140-VEJ102M1ETR1316
footprint VEJ102M1ETR-1316
pins: 1, 2

## VKMC1001H680MV
designator C?, comment 68uF
68uF ±20% 50V 6.3mm 10mm 390mA 6.3x10mm Aluminum Electrolytic Capacitors - SMD RoHS; Manufacturer: Ymin; Package: SMD,6.3x10mm; Tolerance: ±20%; Rated Voltage: 50V; φD: 6.3mm
footprint VKMC1001H680MV (68uF ±20% 50V 6.3mm 10mm 390mA)
pins: 1, 2

## VKME1451J221MV
designator C?, comment 220uF
220uF ±20% 63V 10mm 14.5mm 1.2A 100kHz 10000hrs 105℃ -55℃~+105℃ SMD,10x14.5mm Aluminum Electrolytic Capacitors - SMD RoHS; Manufacturer: Ymin; ackage: SMD,10x14.5mm; Capacitance: 220uF; Tolerance: ±20%; Rated Voltage: 63V; φD: 10mm; L: 14.5mm; Ripple Current: 1.2A 100kHz; Lifetime @ Temp: 10000hrs 105℃; Operating Temperature: -55℃~+105℃
footprint VKME1451J221MV (220uF ±20% 63V 10mm 14.5mm 1.2A 100kHz 10000hrs 105? -55?~+105? SMD,10x14.5mm Aluminum Electrolytic Capacitors - SMD RoHS)
pins: 1, 2

## VS-30WQ04FNTR-M3
designator D?
Diode Schottky 40V 3.5A 3-Pin(2+Tab) DPAK T/R; Manufacturer: Vishay Semiconductors; Element Configuration: Common Anode; Max Reverse Current: 2mA; Peak Non-Repetitive Surge Current: 500A; Supplier 1: Digi-Key; Manufacturer Part Number: VS-30WQ04FNTR-M3; RoHS: Yes; Category: Rectifier Diodes; Stock 1: 16; Pricing 1: 1=0.68000, 10=0.59900, 100=0.45950, 500=0.36322, 1000=0.29058 (USD); Mount: Surface Mount; Case/Package: TO-252-3; Number of Pins: 3; Min Operating Temperature: -40°C; Max Operating Temperature: 150°C; Forward Current: 3.5A; Packaging: Tape and Reel; Average Rectified Current: 3.5A; Max Repetitive Reverse Voltage (Vrrm): 40V; Max Reverse Voltage (DC): 40V; Series: Automotive, AEC-Q101; RoHS Compliant: Yes; ComponentLink1URL: https://datasheet.ciiva.com/8289/30wq04fn-8289643.pdf?src-supplier=Avnet; ComponentLink1Description: https://datasheet.ciiva.com/8289/30wq04fn-8289643.pdf?src-supplier=Avnet; Supplier Part Number 1: VS-30WQ04FNTR-M3GICT-ND
footprint VS-30WQ04FNTR-M3 (DIODE SCHOTTKY DPAK)
pins: 1 A, 3 A, 4 K

## VT1H471MI135000CE0
designator C?, comment 470uF
470uF ±20% 50V 12.5mm 13.5mm 1000hrs 105℃ -40℃~+105℃ SMD,12.5x13.5mm Aluminum Electrolytic Capacitors - SMD RoHS; Manufacturer: Changzhou Huawei Elec; Package: SMD,12.5x13.5mm; Capacitance: 470uF; Tolerance: ±20%; Rated Voltage: 50V; φD: 12.5mm; L: 13.5mm; Lifetime @ Temp: 1000hrs 105℃; Operating Temperature: -40℃~+105℃
footprint VT1H471MI135000CE0 (470uF ±20% 50V 12.5mm 13.5mm 1000hrs 105? -40?~+105? SMD,12.5x13.5mm Aluminum Electrolytic Capacitors - SMD RoHS)
pins: 1, 2

## WJ126V-5.0-6P
designator J?
P=5.0mm Screw terminal RoHS; Manufacturer: Ningbo Kangnex Elec; Number of Positions: 6; Number of Levels: 1; Pitch: 0.197"(5.00mm); Package: P=5.0mm; Packaging: Bag-packed; Type: Wiring Board - Line to Board; Positions Per Level: 6
footprint WJ126V-5.0-6P (P=5.0mm Screw terminal RoHS)
pins: 1, 2, 3, 4, 5, 6

## WR02X100JAL
designator R?, comment 10R
50mW Thick Film Resistors ±5% ±200ppm/℃ 10Ω 0201 Chip Resistor - Surface Mount ROHS; Manufacturer: Walsin Tech Corp; Manufacturer Part Number: WR02X100JAL; Package: 0201; LCSC Part Number: C171936; Item Type: Resistor; ComponentLink1Description: LCSC; ComponentLink1URL: https://www.lcsc.com/product-detail/Chip-Resistor-Surface-Mount_Walsin-Tech-Corp-WR02X100JAL_C171936.html
footprint Res-0201
pins: 1, 2

## WS2812B-Mini
designator LED?
SMD,3.5x3.5mm Light Emitting Diodes (LED) RoHS; Manufacturer: Worldsemi; ComponentLink1Description: LCSC; ComponentLink1URL: *https://lcsc.com/product-detail/Light-Emitting-Diodes-LED_Worldsemi-WS2812B-Mini_C527089.html; Package: SMD,3.5x3.5mm; Parameter 1: *
footprint WS2812B-Mini (SMD,3.5x3.5mm Light Emitting Diodes (LED) RoHS)
pins: 1 VDD, 2 DOUT, 3 VSS, 4 DIN

## WS2813B
designator LED?, comment 601000200
ADDRESS LED DISCRET SERIAL R/G/B
footprint WS2813B
pins: 1 NC, 2 VDD, 3 DO, 4 DIN, 5 GND, 6 BIN

## XL1509-ADJE1
designator U?
40V 2A SOP-8_150mil DC-DC Converters RoHS; Manufacturer: XLSEMI; Value: Custom; Manufacturer Part No: XL1509-ADJE1; Package: SOP-8
footprint SOP-8
pins: 1 VIN, 2 OUTPUT, 3 FEEDBACK, 4 ON/OFF, 5 GND, 6 GND, 7 GND, 8 GND

## XL4016E1
designator U?
NO Step-down type 1 Step-down 1.25V~36V 8V~40V 8A 180kHz TO-220-5 DC-DC Converters ROHS; Manufacturer: XLSEMI; Manufacturer Part No: XL4016E1; Package: TO-220-5
footprint TO-220-5
pins: 1 GND, 2 FB, 3 SW, 4 VC, 5 VIN

## XZMDK68W-2
designator LED?
LED RED CLEAR CHIP SMD; Manufacturer: SunLED; Lens Color: Colorless; Luminous Intensity: 69mcd; Test Current: 20mA; Viewing Angle: 120°; Dominant Wavelength: 630nm; Forward Voltage: 1.95V; Supplier 1: Digi-Key; Manufacturer Part Number: XZMDK68W-2; Stock 1: 69539; Pricing 1: 1=0.43, 10=0.306, 100=0.136, 500=0.0952, 1000=0.0782 (USD); Mount: Surface Mount; Case/Package: 0402; Color: Red; Case Code (Metric): 1005; Case Code (Imperial): 0402; Packaging: Tape and Reel; Lens Transparency: Clear; Length: 1mm; Height: 0.6mm; Width: 0.5mm; ComponentLink1URL: http://www.sunledusa.com/products/spec/XZMDK68W-2.pdf?src-supplier=Digi-Key; ComponentLink1Description: http://www.sunledusa.com/products/spec/XZMDK68W-2.pdf?src-supplier=Digi-Key; ComponentLink2URL: https://www.sunledusa.com/products/spec/XZMDK68W-2.pdf?src-supplier=Digi-Key; ComponentLink2Description: https://www.sunledusa.com/products/spec/XZMDK68W-2.pdf?src-supplier=Digi-Key; Supplier Part Number 1: 1497-1174-6-ND
footprint LED 0402 (LED RED CLEAR CHIP SMD)
pins: 1, 2

## XZVG68W-2
designator LED?
LED GREEN CLEAR CHIP SMD; Manufacturer: SunLED; Lens Color: Colorless; Luminous Intensity: 49mcd; Test Current: 20mA; Viewing Angle: 120°; Dominant Wavelength: 570nm; Forward Voltage: 2.1V; Supplier 1: Digi-Key; Manufacturer Part Number: XZVG68W-2; Stock 1: 4185; Pricing 1: 1=0.5, 10=0.36, 100=0.16, 500=0.112, 1000=0.092 (USD); Mount: Surface Mount; Case/Package: 0402; Color: Green; Case Code (Metric): 1005; Case Code (Imperial): 0402; Packaging: Tape and Reel; Lens Transparency: Clear; Length: 1mm; Height: 0.6mm; Width: 0.5mm; ComponentLink1URL: http://www.sunledusa.com/products/spec/XZVG68W-2.pdf?src-supplier=Digi-Key; ComponentLink1Description: http://www.sunledusa.com/products/spec/XZVG68W-2.pdf?src-supplier=Digi-Key; ComponentLink2URL: https://www.sunledusa.com/products/spec/XZVG68W-2.pdf?src-supplier=Digi-Key; ComponentLink2Description: https://www.sunledusa.com/products/spec/XZVG68W-2.pdf?src-supplier=Digi-Key; Supplier Part Number 1: 1497-1219-6-ND
footprint LED 0402 (LED RED CLEAR CHIP SMD)
pins: 1, 2